# Altium footprint library Panasonic-AlyPolCaps.PcbLib: 1 footprints
Each footprint in its own frame and in the unit in brackets; x right, y up, seen from the top. Pads: shape width x height; smd on the part's side, far side on the other; paste and mask are expansions set on the pad; w line width, h text height; cw(c..) or ccw(c..) is an arc to the next point about the centre after c.
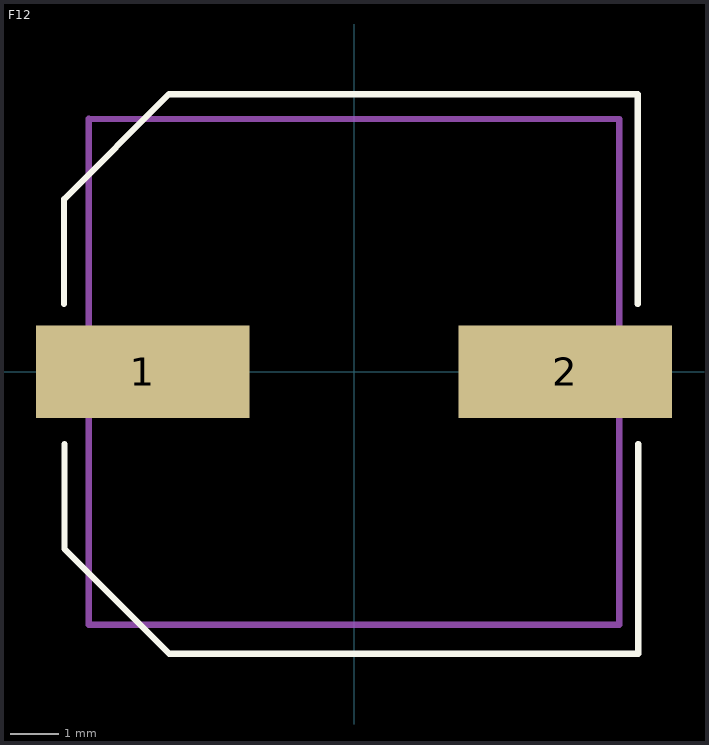
[diagram p0: the footprint, top view; thin cyan lines are the x and y axes]

## F12 [mm]
height 13
pads (2):
  rect 4.4x1.9 smd mask+0.051: 1(-4.35,0) 2(4.35,0)
Top Overlay:
  lines w0.127: -5.969,1.397 -5.969,1.524 -5.969,3.556 -3.81,5.715 5.842,5.715 5.842,1.397 ; -5.961,-1.487 -5.961,-1.614 -5.961,-3.646 -3.802,-5.805 5.85,-5.805 5.85,-1.487
Mechanical 1:
  lines w0.127: -5.461,-5.207 -5.461,5.211 -5.457,5.207 5.461,5.207 5.461,-5.207 -5.461,-5.207
3D body "F12_PANASONIC_1.step": height 13, standoff 0.4, extent -5.5,-5.15 5.5,5.15